# Altium footprint library mbed-HDK.PCBLIB: 59 footprints (part 2 of 4)
Each footprint in its own frame and in the unit in brackets; x right, y up, seen from the top. Pads: shape width x height; smd on the part's side, far side on the other; paste and mask are expansions set on the pad; w line width, h text height; cw(c..) or ccw(c..) is an arc to the next point about the centre after c.
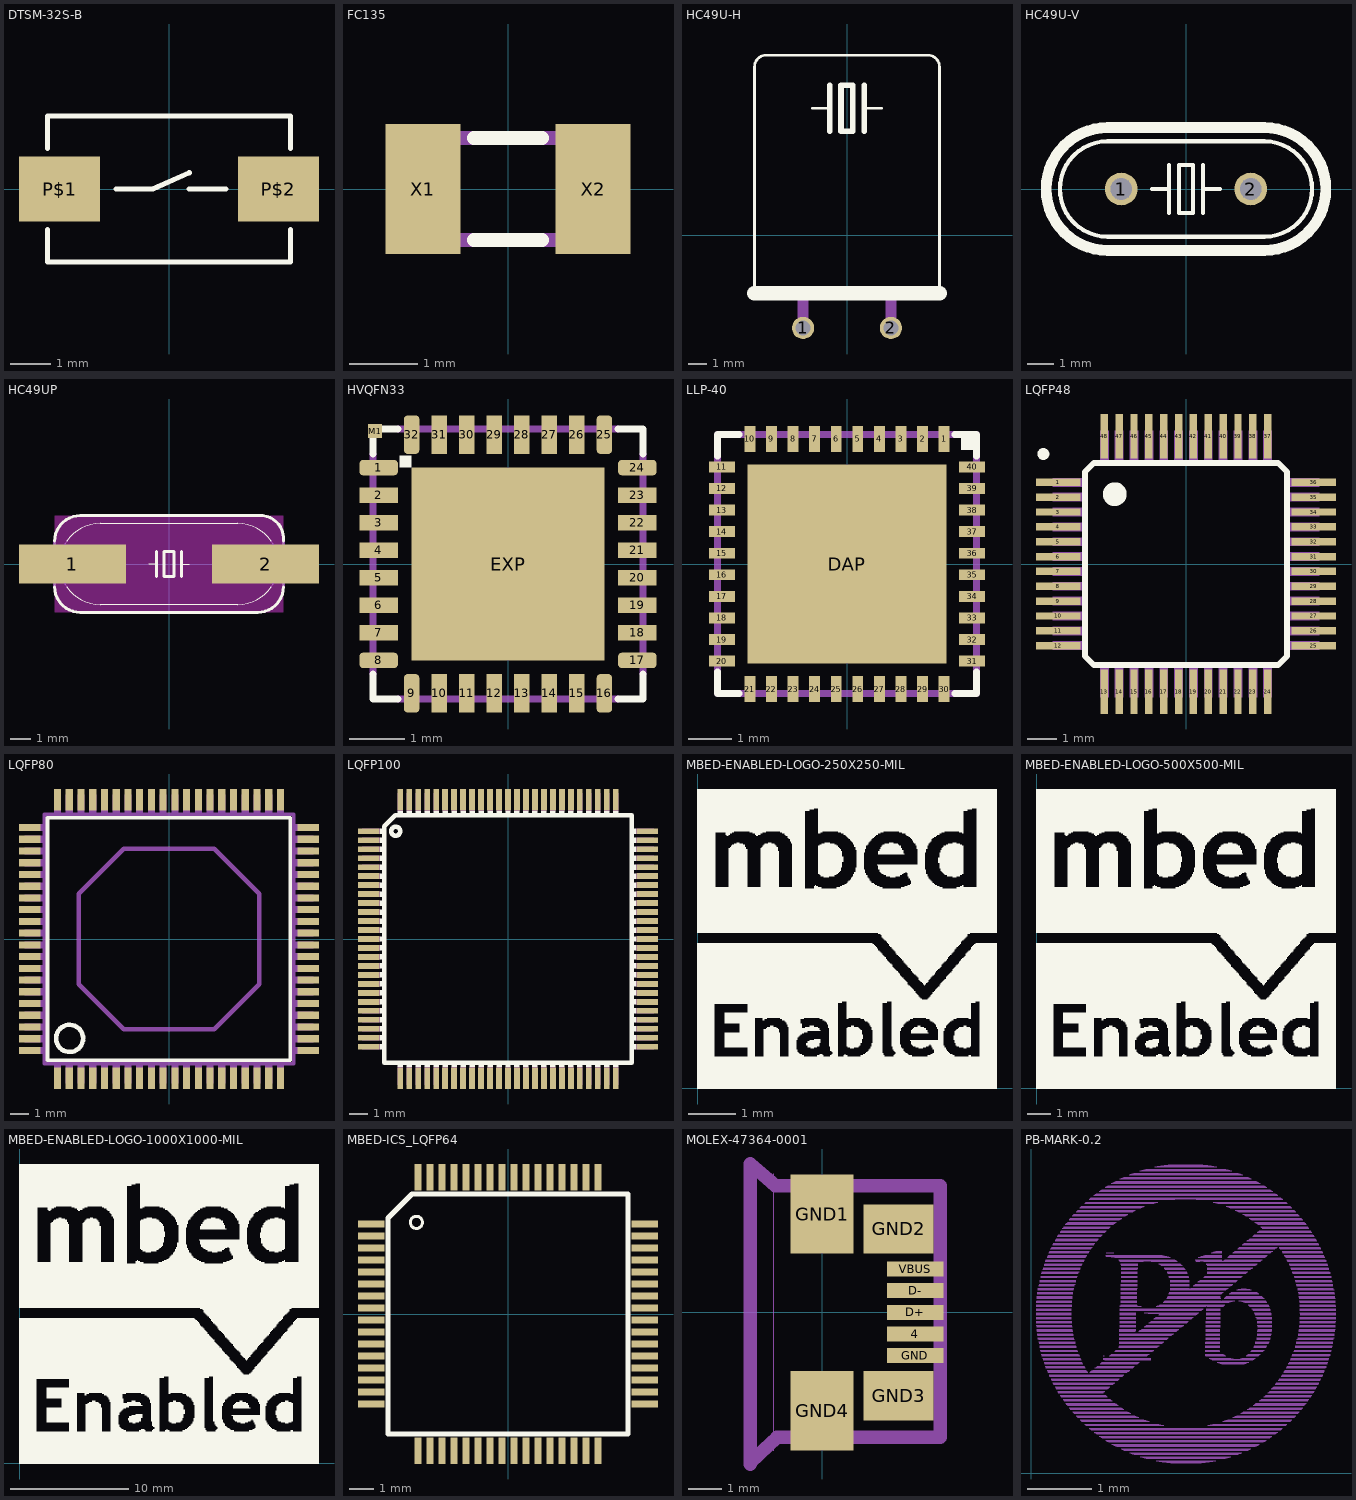
[diagram p1: the footprints below, top view; thin cyan lines are the x and y axes]

## DTSM-32S-B [mm]
pads (2):
  rect 2x1.6 smd: P$1(-2.7,0) P$2(2.7,0)
Top Overlay:
  lines w0.127: -3,-1 -3,-1.8 3,-1.8 3,-1 ; -3,1 -3,1.8 3,1.8 3,1 ; -1.3,0 -0.4,0 0.5,0.4 ; 0.5,0 1.4,0

## FC135 [mm]
pads (2):
  rect 1.1x1.9 smd: X1(-1.25,0) X2(1.25,0)
Top Overlay:
  lines w0.203: -0.5,-0.75 0.5,-0.75 ; -0.5,0.75 0.5,0.75
Mechanical 16:
  lines w0.203: -1.6,-0.75 -1.6,0.75 1.6,0.75 1.6,-0.75 -1.6,-0.75

## HC49U-H [mil]
pads (2):
  round 48 hole 32: 1(-95,-200) 2(95,-200)
Top Overlay:
  lines w6: -200,-125 -200,365 cw(c-175,365) -175,390 175,390 cw(c175,365) 200,365 200,-125 ; -75,275 -37,275 ; 37,275 75,275
  lines w12: -37,225 -37,275 -37,325 ; 37,225 37,275 37,325 ; -13,225 -13,325 12,325 12,225 -13,225
  lines w32: -200,-125 200,-125
Mechanical 16:
  lines w24: -95,-200 -95,-130 ; 95,-200 95,-130
Via Holes:
  rectangle: -250,-175 250,-75
  rectangle: -225,-75 225,425

## HC49U-V [mil]
pads (2):
  round 48 hole 32: 1(-95,0) 2(95,0)
Top Overlay:
  lines w6: -50,0 -25,0 ; -25,-35 -25,0 ; -25,35 -25,0 ; 25,-35 25,0 ; 25,35 25,0 ; 50,0 25,0 ; -115,-70 115,-70 ccw(c115,0) 115,70 -115,70 ccw(c-115,0) -115,-70 ; -10,-35 10,-35 10,35 -10,35 -10,-35
  lines w16: -115,-90 115,-90 ccw(c115,0) 115,90 -115,90 ccw(c-115,0) -115,-90
Via Holes:
  rectangle: -150,-110 150,110
  rectangle: -170,-100 -150,100
  rectangle: -190,-90 -170,90
  rectangle: -210,-70 -190,70
  rectangle: -220,-50 -210,40
  rectangle: 150,-100 170,100
  rectangle: 170,-90 190,90
  rectangle: 190,-70 210,70
  rectangle: 210,-40 220,40

## HC49UP [mil]
pads (2):
  rect 210x76 smd: 1(-190,0) 2(190,0)
Top Layer keep-out:
  rectangle: -225,-95 225,95
Top Overlay:
  lines w2: -201.15,-45 ccw(c-135.01,0) -135,-80 135,-80 ccw(c135,0) 201.14,-45 ; -201.15,45 cw(c-135,-0.01) -135,80 135,80 cw(c135.01,0) 201.15,45 ; -40,0 -25,0 ; 25,0 40,0
  lines w6: -225,-45 ccw(c-175,-45) -175,-95 175,-95 ccw(c175,-45) 225,-45 ; -225,45 cw(c-175,45) -175,95 185,95 cw(c180,50) 225,45 ; -25,-25 -25,0 -25,25 ; 25,-25 25,0 25,25 ; -10,-25 -10,25 10,25 10,-25 -10,-25
Mechanical 16:
  lines w2: -201.15,-45 cw(c-135,0) -201.15,45 ; 201.15,-45 ccw(c135,0) 201.15,45
  lines w6: -225,-45 -225,-25 ; -225,45 -225,25 ; 225,-45 225,-25 ; 225,45 225,25 ; -225,-25 -225,25 ; -225,-25 -255,-25 -255,25 -225,25 ; 225,-25 255,-25 255,25 225,25 ; 225,-25 225,25
Via Holes:
  rectangle: -265,-115 265,115

## HVQFN33 [mm]
pads (34):
  rrect50% 0.7x0.28 smd: 1(-2.35,1.75) 8(-2.35,-1.75) 17(2.35,-1.75) 24(2.35,1.75)
  rect 0.7x0.28 smd: 2(-2.35,1.25) 3(-2.35,0.75) 4(-2.35,0.25) 5(-2.35,-0.25) 6(-2.35,-0.75) 7(-2.35,-1.25) 18(2.35,-1.25) 19(2.35,-0.75) 20(2.35,-0.25) 21(2.35,0.25) 22(2.35,0.75) 23(2.35,1.25)
  rrect50% 0.28x0.7 smd: 9(-1.75,-2.35) 16(1.75,-2.35) 25(1.75,2.35) 32(-1.75,2.35)
  rect 0.28x0.7 smd: 10(-1.25,-2.35) 11(-0.75,-2.35) 12(-0.25,-2.35) 13(0.25,-2.35) 14(0.75,-2.35) 15(1.25,-2.35) 26(1.25,2.35) 27(0.75,2.35) 28(0.25,2.35) 29(-0.25,2.35) 30(-0.75,2.35) 31(-1.25,2.35)
  rect 3.5x3.5 smd: EXP(0,0)
  rect 0.25x0.25 smd: M1(-2.415,2.415)
Top Overlay:
  rectangle: -1.975,1.75 -1.75,1.975
  lines w0.127: -2.45,-2 -2.45,-2.45 -2,-2.45 ; -2.45,2 -2.45,2.45 -2,2.45 ; 2,-2.45 2.45,-2.45 2.45,-2 ; 2,2.45 2.45,2.45 2.45,2
Top Solder:
  rectangle: -1.75,-1.75 1.75,1.75
  rectangle: -2.725,1.575 -1.975,1.925
  rectangle: -2.725,1.075 -1.975,1.425
  rectangle: -2.725,0.575 -1.975,0.925
  rectangle: -2.725,0.075 -1.975,0.425
  rectangle: -2.725,-0.425 -1.975,-0.075
  rectangle: -2.725,-0.925 -1.975,-0.575
  rectangle: -2.725,-1.425 -1.975,-1.075
  rectangle: -2.725,-1.925 -1.975,-1.575
  region: -1.575,-2.725 -1.575,-1.975 -1.925,-1.975 -1.925,-2.725
  region: -1.075,-2.725 -1.075,-1.975 -1.425,-1.975 -1.425,-2.725
  region: -0.575,-2.725 -0.575,-1.975 -0.925,-1.975 -0.925,-2.725
  region: -0.075,-2.725 -0.075,-1.975 -0.425,-1.975 -0.425,-2.725
  region: 0.425,-2.725 0.425,-1.975 0.075,-1.975 0.075,-2.725
  region: 0.925,-2.725 0.925,-1.975 0.575,-1.975 0.575,-2.725
  region: 1.425,-2.725 1.425,-1.975 1.075,-1.975 1.075,-2.725
  region: 1.925,-2.725 1.925,-1.975 1.575,-1.975 1.575,-2.725
  region: 2.725,-1.575 1.975,-1.575 1.975,-1.925 2.725,-1.925
  region: 2.725,-1.075 1.975,-1.075 1.975,-1.425 2.725,-1.425
  region: 2.725,-0.575 1.975,-0.575 1.975,-0.925 2.725,-0.925
  region: 2.725,-0.075 1.975,-0.075 1.975,-0.425 2.725,-0.425
  region: 2.725,0.425 1.975,0.425 1.975,0.075 2.725,0.075
  region: 2.725,0.925 1.975,0.925 1.975,0.575 2.725,0.575
  region: 2.725,1.425 1.975,1.425 1.975,1.075 2.725,1.075
  region: 2.725,1.925 1.975,1.925 1.975,1.575 2.725,1.575
  region: 1.575,2.725 1.575,1.975 1.925,1.975 1.925,2.725
  region: 1.075,2.725 1.075,1.975 1.425,1.975 1.425,2.725
  region: 0.575,2.725 0.575,1.975 0.925,1.975 0.925,2.725
  region: 0.075,2.725 0.075,1.975 0.425,1.975 0.425,2.725
  region: -0.425,2.725 -0.425,1.975 -0.075,1.975 -0.075,2.725
  region: -0.925,2.725 -0.925,1.975 -0.575,1.975 -0.575,2.725
  region: -1.425,2.725 -1.425,1.975 -1.075,1.975 -1.075,2.725
  region: -1.925,2.725 -1.925,1.975 -1.575,1.975 -1.575,2.725
Mechanical 16:
  lines w0.127: -2.45,-2 -2.45,2 ; -2,-2.45 2,-2.45 ; -2,2.45 2,2.45 ; 2.45,-2 2.45,2

## LLP-40 [mm]
pads (41):
  rect 0.25x0.6 smd: 1(2.25,2.9) 2(1.75,2.9) 3(1.25,2.9) 4(0.75,2.9) 5(0.25,2.9) 6(-0.25,2.9) 7(-0.75,2.9) 8(-1.25,2.9) 9(-1.75,2.9) 10(-2.25,2.9) 21(-2.25,-2.9) 22(-1.75,-2.9) 23(-1.25,-2.9) 24(-0.75,-2.9) 25(-0.25,-2.9) 26(0.25,-2.9) 27(0.75,-2.9) 28(1.25,-2.9) 29(1.75,-2.9) 30(2.25,-2.9)
  rect 0.6x0.25 smd: 11(-2.9,2.25) 12(-2.9,1.75) 13(-2.9,1.25) 14(-2.9,0.75) 15(-2.9,0.25) 16(-2.9,-0.25) 17(-2.9,-0.75) 18(-2.9,-1.25) 19(-2.9,-1.75) 20(-2.9,-2.25) 31(2.9,-2.25) 32(2.9,-1.75) 33(2.9,-1.25) 34(2.9,-0.75) 35(2.9,-0.25) 36(2.9,0.25) 37(2.9,0.75) 38(2.9,1.25) 39(2.9,1.75) 40(2.9,2.25)
  rect 4.6x4.6 smd: DAP(0,0)
Top Overlay:
  rectangle: 2.642,2.642 2.997,2.997
  lines w0.152: -3,-2.5 -3,-3 -2.5,-3 ; -3,2.5 -3,3 -2.5,3 ; 2.5,-3 3,-3 3,-2.5 ; 2.5,3 3,3 3,2.5
Top Paste:
  rectangle: 2.125,2.7 2.375,3.4
  rectangle: 1.625,2.7 1.875,3.4
  rectangle: 1.125,2.7 1.375,3.4
  rectangle: 0.625,2.7 0.875,3.4
  rectangle: 0.125,2.7 0.375,3.4
  rectangle: -0.375,2.7 -0.125,3.4
  rectangle: -0.875,2.7 -0.625,3.4
  rectangle: -1.375,2.7 -1.125,3.4
  rectangle: -1.875,2.7 -1.625,3.4
  rectangle: -2.375,2.7 -2.125,3.4
  region: -2.7,2.125 -2.7,2.375 -3.4,2.375 -3.4,2.125
  region: -2.7,1.625 -2.7,1.875 -3.4,1.875 -3.4,1.625
  region: -2.7,1.125 -2.7,1.375 -3.4,1.375 -3.4,1.125
  region: -2.7,0.625 -2.7,0.875 -3.4,0.875 -3.4,0.625
  region: -2.7,0.125 -2.7,0.375 -3.4,0.375 -3.4,0.125
  region: -2.7,-0.375 -2.7,-0.125 -3.4,-0.125 -3.4,-0.375
  region: -2.7,-0.875 -2.7,-0.625 -3.4,-0.625 -3.4,-0.875
  region: -2.7,-1.375 -2.7,-1.125 -3.4,-1.125 -3.4,-1.375
  region: -2.7,-1.875 -2.7,-1.625 -3.4,-1.625 -3.4,-1.875
  region: -2.7,-2.375 -2.7,-2.125 -3.4,-2.125 -3.4,-2.375
  region: -2.125,-2.7 -2.375,-2.7 -2.375,-3.4 -2.125,-3.4
  region: -1.625,-2.7 -1.875,-2.7 -1.875,-3.4 -1.625,-3.4
  region: -1.125,-2.7 -1.375,-2.7 -1.375,-3.4 -1.125,-3.4
  region: -0.625,-2.7 -0.875,-2.7 -0.875,-3.4 -0.625,-3.4
  region: -0.125,-2.7 -0.375,-2.7 -0.375,-3.4 -0.125,-3.4
  region: 0.375,-2.7 0.125,-2.7 0.125,-3.4 0.375,-3.4
  region: 0.875,-2.7 0.625,-2.7 0.625,-3.4 0.875,-3.4
  region: 1.375,-2.7 1.125,-2.7 1.125,-3.4 1.375,-3.4
  region: 1.875,-2.7 1.625,-2.7 1.625,-3.4 1.875,-3.4
  region: 2.375,-2.7 2.125,-2.7 2.125,-3.4 2.375,-3.4
  region: 2.7,-2.125 2.7,-2.375 3.4,-2.375 3.4,-2.125
  region: 2.7,-1.625 2.7,-1.875 3.4,-1.875 3.4,-1.625
  region: 2.7,-1.125 2.7,-1.375 3.4,-1.375 3.4,-1.125
  region: 2.7,-0.625 2.7,-0.875 3.4,-0.875 3.4,-0.625
  region: 2.7,-0.125 2.7,-0.375 3.4,-0.375 3.4,-0.125
  region: 2.7,0.375 2.7,0.125 3.4,0.125 3.4,0.375
  region: 2.7,0.875 2.7,0.625 3.4,0.625 3.4,0.875
  region: 2.7,1.375 2.7,1.125 3.4,1.125 3.4,1.375
  region: 2.7,1.375 2.7,1.125 3.4,1.125 3.4,1.375
  region: 2.7,1.875 2.7,1.625 3.4,1.625 3.4,1.875
  region: 2.7,2.375 2.7,2.125 3.4,2.125 3.4,2.375
  rectangle: -1.1,-1.1 -0.1,-0.1
  rectangle: -1.1,0.1 -0.1,1.1
  rectangle: 0.1,0.1 1.1,1.1
  rectangle: 0.1,-1.1 1.1,-0.1
  rectangle: -2.2,0.1 -1.3,1.1
  rectangle: -2.2,-1.1 -1.3,-0.1
  rectangle: 1.3,-1.1 2.2,-0.1
  rectangle: 1.3,0.1 2.2,1.1
  rectangle: -1.1,-2.2 -0.1,-1.3
  rectangle: 0.1,-2.2 1.1,-1.3
  rectangle: -2.2,-2.2 -1.3,-1.3
  rectangle: 1.3,-2.2 2.2,-1.3
  rectangle: -2.2,1.3 -1.3,2.2
  rectangle: 1.3,1.3 2.2,2.2
  rectangle: 0.1,1.3 1.1,2.2
  rectangle: -1.1,1.3 -0.1,2.2
Top Solder:
  rectangle: 2.05,2.525 2.45,3.475
  rectangle: 1.55,2.525 1.95,3.475
  rectangle: 1.05,2.525 1.45,3.475
  rectangle: 0.55,2.525 0.95,3.475
  rectangle: 0.05,2.525 0.45,3.475
  rectangle: -0.45,2.525 -0.05,3.475
  rectangle: -0.95,2.525 -0.55,3.475
  rectangle: -1.45,2.525 -1.05,3.475
  rectangle: -1.95,2.525 -1.55,3.475
  rectangle: -2.45,2.525 -2.05,3.475
  region: -3.475,2.45 -3.475,2.05 -2.525,2.05 -2.525,2.45
  region: -3.475,1.95 -3.475,1.55 -2.525,1.55 -2.525,1.95
  region: -3.475,1.45 -3.475,1.05 -2.525,1.05 -2.525,1.45
  region: -3.475,0.95 -3.475,0.55 -2.525,0.55 -2.525,0.95
  region: -3.475,0.45 -3.475,0.05 -2.525,0.05 -2.525,0.45
  region: -3.475,-0.05 -3.475,-0.45 -2.525,-0.45 -2.525,-0.05
  region: -3.475,-0.55 -3.475,-0.95 -2.525,-0.95 -2.525,-0.55
  region: -3.475,-1.05 -3.475,-1.45 -2.525,-1.45 -2.525,-1.05
  region: -3.475,-1.55 -3.475,-1.95 -2.525,-1.95 -2.525,-1.55
  region: -3.475,-2.05 -3.475,-2.45 -2.525,-2.45 -2.525,-2.05
  rectangle: -2.45,-3.475 -2.05,-2.525
  rectangle: -1.95,-3.475 -1.55,-2.525
  rectangle: -1.45,-3.475 -1.05,-2.525
  rectangle: -0.95,-3.475 -0.55,-2.525
  rectangle: -0.45,-3.475 -0.05,-2.525
  rectangle: 0.05,-3.475 0.45,-2.525
  rectangle: 0.55,-3.475 0.95,-2.525
  rectangle: 1.05,-3.475 1.45,-2.525
  rectangle: 1.55,-3.475 1.95,-2.525
  rectangle: 2.05,-3.475 2.45,-2.525
  region: 3.475,-2.45 3.475,-2.05 2.525,-2.05 2.525,-2.45
  region: 3.475,-1.95 3.475,-1.55 2.525,-1.55 2.525,-1.95
  region: 3.475,-1.45 3.475,-1.05 2.525,-1.05 2.525,-1.45
  region: 3.475,-0.95 3.475,-0.55 2.525,-0.55 2.525,-0.95
  region: 3.475,-0.45 3.475,-0.05 2.525,-0.05 2.525,-0.45
  region: 3.475,0.05 3.475,0.45 2.525,0.45 2.525,0.05
  region: 3.475,0.55 3.475,0.95 2.525,0.95 2.525,0.55
  region: 3.475,1.05 3.475,1.45 2.525,1.45 2.525,1.05
  region: 3.475,1.55 3.475,1.95 2.525,1.95 2.525,1.55
  region: 3.475,2.05 3.475,2.45 2.525,2.45 2.525,2.05
  rectangle: -2.375,-2.375 2.375,2.375
Mechanical 16:
  circle w0: c-2.1,2.1 r0.141
  circle w0: c-0.7,2.1 r0.141
  circle w0: c0.7,2.1 r0.141
  circle w0: c2.1,2.1 r0.141
  circle w0: c-2.1,0.7 r0.141
  circle w0: c-0.7,0.7 r0.141
  circle w0: c0.7,0.7 r0.141
  circle w0: c2.1,0.7 r0.141
  circle w0: c2.1,-0.7 r0.141
  circle w0: c0.7,-0.7 r0.141
  circle w0: c-0.7,-0.7 r0.141
  circle w0: c-2.1,-0.7 r0.141
  circle w0: c-2.1,-2.1 r0.141
  circle w0: c-0.7,-2.1 r0.141
  circle w0: c0.7,-2.1 r0.141
  circle w0: c2.1,-2.1 r0.141
  lines w0.152: -3,-3 -3,3 3,3 3,-3 -3,-3
Via Holes:
  rectangle: -3.2,2.5 -2.5,3.2
  rectangle: 2.5,2.5 3.2,3.2
  rectangle: 2.5,-3.2 3.2,-2.5
  rectangle: -3.2,-3.2 -2.5,-2.5

## LQFP48 [mm]
pads (48):
  rect 1.5x0.25 smd: 1(-4.3,2.75) 2(-4.3,2.25) 3(-4.3,1.75) 4(-4.3,1.25) 5(-4.3,0.75) 6(-4.3,0.25) 7(-4.3,-0.25) 8(-4.3,-0.75) 9(-4.3,-1.25) 10(-4.3,-1.75) 11(-4.3,-2.25) 12(-4.3,-2.75) 25(4.3,-2.75) 26(4.3,-2.25) 27(4.3,-1.75) 28(4.3,-1.25) 29(4.3,-0.75) 30(4.3,-0.25) 31(4.3,0.25) 32(4.3,0.75) 33(4.3,1.25) 34(4.3,1.75) 35(4.3,2.25) 36(4.3,2.75)
  rect 0.25x1.5 smd: 13(-2.75,-4.3) 14(-2.25,-4.3) 15(-1.75,-4.3) 16(-1.25,-4.3) 17(-0.75,-4.3) 18(-0.25,-4.3) 19(0.25,-4.3) 20(0.75,-4.3) 21(1.25,-4.3) 22(1.75,-4.3) 23(2.25,-4.3) 24(2.75,-4.3) 37(2.75,4.3) 38(2.25,4.3) 39(1.75,4.3) 40(1.25,4.3) 41(0.75,4.3) 42(0.25,4.3) 43(-0.25,4.3) 44(-0.75,4.3) 45(-1.25,4.3) 46(-1.75,4.3) 47(-2.25,4.3) 48(-2.75,4.3)
Top Overlay:
  circle w0.2: c-4.8,3.704 r0.1
  circle w0.4: c-2.4,2.35 r0.2
  lines w0.203: -3.4,-3.1 -3.4,3.1 -3.1,3.4 3.1,3.4 3.4,3.1 3.4,-3.1 3.1,-3.4 -3.1,-3.4 -3.4,-3.1
Mechanical 16:
  rectangle: -4.5,2.6 -3.45,2.9
  rectangle: -4.5,2.1 -3.45,2.4
  rectangle: -4.5,1.6 -3.45,1.9
  rectangle: -4.5,1.1 -3.45,1.4
  rectangle: -4.5,0.6 -3.45,0.9
  rectangle: -4.5,0.1 -3.45,0.4
  rectangle: -4.5,-0.4 -3.45,-0.1
  rectangle: -4.5,-0.9 -3.45,-0.6
  rectangle: -4.5,-1.4 -3.45,-1.1
  rectangle: -4.5,-1.9 -3.45,-1.6
  rectangle: -4.5,-2.4 -3.45,-2.1
  rectangle: -4.5,-2.9 -3.45,-2.6
  rectangle: -2.9,-4.5 -2.6,-3.45
  rectangle: -2.4,-4.5 -2.1,-3.45
  rectangle: -1.9,-4.5 -1.6,-3.45
  rectangle: -1.4,-4.5 -1.1,-3.45
  rectangle: -0.9,-4.5 -0.6,-3.45
  rectangle: -0.4,-4.5 -0.1,-3.45
  rectangle: 0.1,-4.5 0.4,-3.45
  rectangle: 0.6,-4.5 0.9,-3.45
  rectangle: 1.1,-4.5 1.4,-3.45
  rectangle: 1.6,-4.5 1.9,-3.45
  rectangle: 2.1,-4.5 2.4,-3.45
  rectangle: 2.6,-4.5 2.9,-3.45
  rectangle: 3.45,-2.9 4.5,-2.6
  rectangle: 3.45,-2.4 4.5,-2.1
  rectangle: 3.45,-1.9 4.5,-1.6
  rectangle: 3.45,-1.4 4.5,-1.1
  rectangle: 3.45,-0.9 4.5,-0.6
  rectangle: 3.45,-0.4 4.5,-0.1
  rectangle: 3.45,0.1 4.5,0.4
  rectangle: 3.45,0.6 4.5,0.9
  rectangle: 3.45,1.1 4.5,1.4
  rectangle: 3.45,1.6 4.5,1.9
  rectangle: 3.45,2.1 4.5,2.4
  rectangle: 3.45,2.6 4.5,2.9
  rectangle: 2.6,3.45 2.9,4.5
  rectangle: 2.1,3.45 2.4,4.5
  rectangle: 1.6,3.45 1.9,4.5
  rectangle: 1.1,3.45 1.4,4.5
  rectangle: 0.6,3.45 0.9,4.5
  rectangle: 0.1,3.45 0.4,4.5
  rectangle: -0.4,3.45 -0.1,4.5
  rectangle: -0.9,3.45 -0.6,4.5
  rectangle: -1.4,3.45 -1.1,4.5
  rectangle: -1.9,3.45 -1.6,4.5
  rectangle: -2.4,3.45 -2.1,4.5
  rectangle: -2.9,3.45 -2.6,4.5

## LQFP80 [mm]
pads (80):
  rect 0.4x1.2 smd: 1(-6.175,-7.7) 2(-5.525,-7.7) 3(-4.875,-7.7) 4(-4.225,-7.7) 5(-3.575,-7.7) 6(-2.925,-7.7) 7(-2.275,-7.7) 8(-1.625,-7.7) 9(-0.975,-7.7) 10(-0.325,-7.7) 11(0.325,-7.7) 12(0.975,-7.7) 13(1.625,-7.7) 14(2.275,-7.7) 15(2.925,-7.7) 16(3.575,-7.7) 17(4.225,-7.7) 18(4.875,-7.7) 19(5.525,-7.7) 20(6.175,-7.7) 41(6.175,7.7) 42(5.525,7.7) 43(4.875,7.7) 44(4.225,7.7) 45(3.575,7.7) 46(2.925,7.7) 47(2.275,7.7) 48(1.625,7.7) 49(0.975,7.7) 50(0.325,7.7) 51(-0.325,7.7) 52(-0.975,7.7) 53(-1.625,7.7) 54(-2.275,7.7) 55(-2.925,7.7) 56(-3.575,7.7) 57(-4.225,7.7) 58(-4.875,7.7) 59(-5.525,7.7) 60(-6.175,7.7)
  rect 1.2x0.4 smd: 21(7.7,-6.175) 22(7.7,-5.525) 23(7.7,-4.875) 24(7.7,-4.225) 25(7.7,-3.575) 26(7.7,-2.925) 27(7.7,-2.275) 28(7.7,-1.625) 29(7.7,-0.975) 30(7.7,-0.325) 31(7.7,0.325) 32(7.7,0.975) 33(7.7,1.625) 34(7.7,2.275) 35(7.7,2.925) 36(7.7,3.575) 37(7.7,4.225) 38(7.7,4.875) 39(7.7,5.525) 40(7.7,6.175) 61(-7.7,6.175) 62(-7.7,5.525) 63(-7.7,4.875) 64(-7.7,4.225) 65(-7.7,3.575) 66(-7.7,2.925) 67(-7.7,2.275) 68(-7.7,1.625) 69(-7.7,0.975) 70(-7.7,0.325) 71(-7.7,-0.325) 72(-7.7,-0.975) 73(-7.7,-1.625) 74(-7.7,-2.275) 75(-7.7,-2.925) 76(-7.7,-3.575) 77(-7.7,-4.225) 78(-7.7,-4.875) 79(-7.7,-5.525) 80(-7.7,-6.175)
Top Overlay:
  circle w0.254: c-5.5,-5.5 r0.75
  lines w0.203: -6.72,-6.71 6.71,-6.71 6.71,6.71 -6.72,6.71 -6.72,-6.71
Mechanical 14:
  lines w0.254: -5,-2.5 -5,2.5 -2.5,5 2.5,5 5,2.5 5,-2.5 2.5,-5 -2.5,-5 -5,-2.5
  text "THERMAL" at -2.5,3.675 h1.26
  text "SLUG" at -2.5,2.175 h1.26
  text "LQFP_ED" at -2.5,0.675 h1.26
Mechanical 16:
  rectangle: -6.375,-8 -5.975,-6.95
  rectangle: -5.725,-8 -5.325,-6.95
  rectangle: -5.075,-8 -4.675,-6.95
  rectangle: -4.425,-8 -4.025,-6.95
  rectangle: -3.775,-8 -3.375,-6.95
  rectangle: -3.125,-8 -2.725,-6.95
  rectangle: -2.475,-8 -2.075,-6.95
  rectangle: -1.825,-8 -1.425,-6.95
  rectangle: -1.175,-8 -0.775,-6.95
  rectangle: -0.525,-8 -0.125,-6.95
  rectangle: 0.125,-8 0.525,-6.95
  rectangle: 0.775,-8 1.175,-6.95
  rectangle: 1.425,-8 1.825,-6.95
  rectangle: 2.075,-8 2.475,-6.95
  rectangle: 2.725,-8 3.125,-6.95
  rectangle: 3.375,-8 3.775,-6.95
  rectangle: 4.025,-8 4.425,-6.95
  rectangle: 4.675,-8 5.075,-6.95
  rectangle: 5.325,-8 5.725,-6.95
  rectangle: 5.975,-8 6.375,-6.95
  rectangle: 6.95,-6.375 8,-5.975
  rectangle: 6.95,-5.725 8,-5.325
  rectangle: 6.95,-5.075 8,-4.675
  rectangle: 6.95,-4.425 8,-4.025
  rectangle: 6.95,-3.775 8,-3.375
  rectangle: 6.95,-3.125 8,-2.725
  rectangle: 6.95,-2.475 8,-2.075
  rectangle: 6.95,-1.825 8,-1.425
  rectangle: 6.95,-1.175 8,-0.775
  rectangle: 6.95,-0.525 8,-0.125
  rectangle: 6.95,0.125 8,0.525
  rectangle: 6.95,0.775 8,1.175
  rectangle: 6.95,1.425 8,1.825
  rectangle: 6.95,2.075 8,2.475
  rectangle: 6.95,2.725 8,3.125
  rectangle: 6.95,3.375 8,3.775
  rectangle: 6.95,4.025 8,4.425
  rectangle: 6.95,4.675 8,5.075
  rectangle: 6.95,5.325 8,5.725
  rectangle: 6.95,5.975 8,6.375
  rectangle: 5.975,6.95 6.375,8
  rectangle: 5.325,6.95 5.725,8
  rectangle: 4.675,6.95 5.075,8
  rectangle: 4.025,6.95 4.425,8
  rectangle: 3.375,6.95 3.775,8
  rectangle: 2.725,6.95 3.125,8
  rectangle: 2.075,6.95 2.475,8
  rectangle: 1.425,6.95 1.825,8
  rectangle: 0.775,6.95 1.175,8
  rectangle: 0.125,6.95 0.525,8
  rectangle: -0.525,6.95 -0.125,8
  rectangle: -1.175,6.95 -0.775,8
  rectangle: -1.825,6.95 -1.425,8
  rectangle: -2.475,6.95 -2.075,8
  rectangle: -3.125,6.95 -2.725,8
  rectangle: -3.775,6.95 -3.375,8
  rectangle: -4.425,6.95 -4.025,8
  rectangle: -5.075,6.95 -4.675,8
  rectangle: -5.725,6.95 -5.325,8
  rectangle: -6.375,6.95 -5.975,8
  rectangle: -8,5.975 -6.95,6.375
  rectangle: -8,5.325 -6.95,5.725
  rectangle: -8,4.675 -6.95,5.075
  rectangle: -8,4.025 -6.95,4.425
  rectangle: -8,3.375 -6.95,3.775
  rectangle: -8,2.725 -6.95,3.125
  rectangle: -8,2.075 -6.95,2.475
  rectangle: -8,1.425 -6.95,1.825
  rectangle: -8,0.775 -6.95,1.175
  rectangle: -8,0.125 -6.95,0.525
  rectangle: -8,-0.525 -6.95,-0.125
  rectangle: -8,-1.175 -6.95,-0.775
  rectangle: -8,-1.825 -6.95,-1.425
  rectangle: -8,-2.475 -6.95,-2.075
  rectangle: -8,-3.125 -6.95,-2.725
  rectangle: -8,-3.775 -6.95,-3.375
  rectangle: -8,-4.425 -6.95,-4.025
  rectangle: -8,-5.075 -6.95,-4.675
  rectangle: -8,-5.725 -6.95,-5.325
  rectangle: -8,-6.375 -6.95,-5.975
  lines w0.203: -6.91,-6.91 6.91,-6.91 6.91,6.91 -6.91,6.91 -6.91,-6.91

## LQFP100 [mm]
pads (100):
  rect 1.2x0.32 smd: 1(-7.75,6) 2(-7.75,5.5) 3(-7.75,5) 4(-7.75,4.5) 5(-7.75,4) 6(-7.75,3.5) 7(-7.75,3) 8(-7.75,2.5) 9(-7.75,2) 10(-7.75,1.5) 11(-7.75,1) 12(-7.75,0.5) 13(-7.75,0) 14(-7.75,-0.5) 15(-7.75,-1) 16(-7.75,-1.5) 17(-7.75,-2) 18(-7.75,-2.5) 19(-7.75,-3) 20(-7.75,-3.5) 21(-7.75,-4) 22(-7.75,-4.5) 23(-7.75,-5) 24(-7.75,-5.5) 25(-7.75,-6) 51(7.75,-6) 52(7.75,-5.5) 53(7.75,-5) 54(7.75,-4.5) 55(7.75,-4) 56(7.75,-3.5) 57(7.75,-3) 58(7.75,-2.5) 59(7.75,-2) 60(7.75,-1.5) 61(7.75,-1) 62(7.75,-0.5) 63(7.75,0) 64(7.75,0.5) 65(7.75,1) 66(7.75,1.5) 67(7.75,2) 68(7.75,2.5) 69(7.75,3) 70(7.75,3.5) 71(7.75,4) 72(7.75,4.5) 73(7.75,5) 74(7.75,5.5) 75(7.75,6)
  rect 0.32x1.2 smd: 26(-6,-7.75) 27(-5.5,-7.75) 28(-5,-7.75) 29(-4.5,-7.75) 30(-4,-7.75) 31(-3.5,-7.75) 32(-3,-7.75) 33(-2.5,-7.75) 34(-2,-7.75) 35(-1.5,-7.75) 36(-1,-7.75) 37(-0.5,-7.75) 38(0,-7.75) 39(0.5,-7.75) 40(1,-7.75) 41(1.5,-7.75) 42(2,-7.75) 43(2.5,-7.75) 44(3,-7.75) 45(3.5,-7.75) 46(4,-7.75) 47(4.5,-7.75) 48(5,-7.75) 49(5.5,-7.75) 50(6,-7.75) 76(6,7.75) 77(5.5,7.75) 78(5,7.75) 79(4.5,7.75) 80(4,7.75) 81(3.5,7.75) 82(3,7.75) 83(2.5,7.75) 84(2,7.75) 85(1.5,7.75) 86(1,7.75) 87(0.5,7.75) 88(0,7.75) 89(-0.5,7.75) 90(-1,7.75) 91(-1.5,7.75) 92(-2,7.75) 93(-2.5,7.75) 94(-3,7.75) 95(-3.5,7.75) 96(-4,7.75) 97(-4.5,7.75) 98(-5,7.75) 99(-5.5,7.75) 100(-6,7.75)
Top Overlay:
  circle w0.254: c-6.25,6 r0.25
  rectangle: -6.152,6.861 -5.848,7.115
  rectangle: -5.653,6.861 -5.348,7.115
  rectangle: -5.152,6.861 -4.848,7.115
  rectangle: -4.653,6.861 -4.348,7.115
  rectangle: -4.152,6.861 -3.848,7.115
  rectangle: -3.653,6.861 -3.348,7.115
  rectangle: -3.152,6.861 -2.848,7.115
  rectangle: -2.653,6.861 -2.348,7.115
  rectangle: -2.152,6.861 -1.848,7.115
  rectangle: -1.653,6.861 -1.348,7.115
  rectangle: -1.152,6.861 -0.848,7.115
  rectangle: -0.653,6.861 -0.348,7.115
  rectangle: -0.152,6.861 0.152,7.115
  rectangle: 0.348,6.861 0.653,7.115
  rectangle: 0.848,6.861 1.152,7.115
  rectangle: 1.348,6.861 1.653,7.115
  rectangle: 1.848,6.861 2.152,7.115
  rectangle: 2.348,6.861 2.653,7.115
  rectangle: 2.848,6.861 3.152,7.115
  rectangle: 3.348,6.861 3.653,7.115
  rectangle: 3.848,6.861 4.152,7.115
  rectangle: 4.348,6.861 4.653,7.115
  rectangle: 4.848,6.861 5.152,7.115
  rectangle: 5.348,6.861 5.653,7.115
  rectangle: 5.848,6.861 6.152,7.115
  rectangle: 6.861,5.848 7.115,6.152
  rectangle: 6.861,5.348 7.115,5.653
  rectangle: 6.861,4.848 7.115,5.152
  rectangle: 6.861,4.348 7.115,4.653
  rectangle: 6.861,3.848 7.115,4.152
  rectangle: 6.861,3.348 7.115,3.653
  rectangle: 6.861,2.848 7.115,3.152
  rectangle: 6.861,2.348 7.115,2.653
  rectangle: 6.861,1.848 7.115,2.152
  rectangle: 6.861,1.348 7.115,1.653
  rectangle: 6.861,0.848 7.115,1.152
  rectangle: 6.861,0.348 7.115,0.653
  rectangle: 6.861,-0.152 7.115,0.152
  rectangle: 6.861,-0.653 7.115,-0.348
  rectangle: 6.861,-1.152 7.115,-0.848
  rectangle: 6.861,-1.653 7.115,-1.348
  rectangle: 6.861,-2.152 7.115,-1.848
  rectangle: 6.861,-2.653 7.115,-2.348
  rectangle: 6.861,-3.152 7.115,-2.848
  rectangle: 6.861,-3.653 7.115,-3.348
  rectangle: 6.861,-4.152 7.115,-3.848
  rectangle: 6.861,-4.653 7.115,-4.348
  rectangle: 6.861,-5.152 7.115,-4.848
  rectangle: 6.861,-5.653 7.115,-5.348
  rectangle: 6.861,-6.152 7.115,-5.848
  rectangle: 5.848,-7.115 6.152,-6.861
  rectangle: 5.348,-7.115 5.653,-6.861
  rectangle: 4.848,-7.115 5.152,-6.861
  rectangle: 4.348,-7.115 4.653,-6.861
  rectangle: 3.848,-7.115 4.152,-6.861
  rectangle: 3.348,-7.115 3.653,-6.861
  rectangle: 2.848,-7.115 3.152,-6.861
  rectangle: 2.348,-7.115 2.653,-6.861
  rectangle: 1.848,-7.115 2.152,-6.861
  rectangle: 1.348,-7.115 1.653,-6.861
  rectangle: 0.848,-7.115 1.152,-6.861
  rectangle: 0.348,-7.115 0.653,-6.861
  rectangle: -0.152,-7.115 0.152,-6.861
  rectangle: -0.653,-7.115 -0.348,-6.861
  rectangle: -1.152,-7.115 -0.848,-6.861
  rectangle: -1.653,-7.115 -1.348,-6.861
  rectangle: -2.152,-7.115 -1.848,-6.861
  rectangle: -2.653,-7.115 -2.348,-6.861
  rectangle: -3.152,-7.115 -2.848,-6.861
  rectangle: -3.653,-7.115 -3.348,-6.861
  rectangle: -4.152,-7.115 -3.848,-6.861
  rectangle: -4.653,-7.115 -4.348,-6.861
  rectangle: -5.152,-7.115 -4.848,-6.861
  rectangle: -5.653,-7.115 -5.348,-6.861
  rectangle: -6.152,-7.115 -5.848,-6.861
  rectangle: -7.115,-6.152 -6.861,-5.848
  rectangle: -7.115,-5.653 -6.861,-5.348
  rectangle: -7.115,-5.152 -6.861,-4.848
  rectangle: -7.115,-4.653 -6.861,-4.348
  rectangle: -7.115,-4.152 -6.861,-3.848
  rectangle: -7.115,-3.653 -6.861,-3.348
  rectangle: -7.115,-3.152 -6.861,-2.848
  rectangle: -7.115,-2.653 -6.861,-2.348
  rectangle: -7.115,-2.152 -6.861,-1.848
  rectangle: -7.115,-1.653 -6.861,-1.348
  rectangle: -7.115,-1.152 -6.861,-0.848
  rectangle: -7.115,-0.653 -6.861,-0.348
  rectangle: -7.115,-0.152 -6.861,0.152
  rectangle: -7.115,0.348 -6.861,0.653
  rectangle: -7.115,0.848 -6.861,1.152
  rectangle: -7.115,1.348 -6.861,1.653
  rectangle: -7.115,1.848 -6.861,2.152
  rectangle: -7.115,2.348 -6.861,2.653
  rectangle: -7.115,2.848 -6.861,3.152
  rectangle: -7.115,3.348 -6.861,3.653
  rectangle: -7.115,3.848 -6.861,4.152
  rectangle: -7.115,4.348 -6.861,4.653
  rectangle: -7.115,4.848 -6.861,5.152
  rectangle: -7.115,5.348 -6.861,5.653
  rectangle: -7.115,5.848 -6.861,6.152
  lines w0.254: -6.883,-6.883 -6.883,6.274 -6.274,6.883 6.883,6.883 6.883,-6.883 -6.883,-6.883
Mechanical 16:
  rectangle: -6.152,7.09 -5.848,8.131
  rectangle: -5.653,7.09 -5.348,8.131
  rectangle: -5.152,7.09 -4.848,8.131
  rectangle: -4.653,7.09 -4.348,8.131
  rectangle: -4.152,7.09 -3.848,8.131
  rectangle: -3.653,7.09 -3.348,8.131
  rectangle: -3.152,7.09 -2.848,8.131
  rectangle: -2.653,7.09 -2.348,8.131
  rectangle: -2.152,7.09 -1.848,8.131
  rectangle: -1.653,7.09 -1.348,8.131
  rectangle: -1.152,7.09 -0.848,8.131
  rectangle: -0.653,7.09 -0.348,8.131
  rectangle: -0.152,7.09 0.152,8.131
  rectangle: 0.348,7.09 0.653,8.131
  rectangle: 0.848,7.09 1.152,8.131
  rectangle: 1.348,7.09 1.653,8.131
  rectangle: 1.848,7.09 2.152,8.131
  rectangle: 2.348,7.09 2.653,8.131
  rectangle: 2.848,7.09 3.152,8.131
  rectangle: 3.348,7.09 3.653,8.131
  rectangle: 3.848,7.09 4.152,8.131
  rectangle: 4.348,7.09 4.653,8.131
  rectangle: 4.848,7.09 5.152,8.131
  rectangle: 5.348,7.09 5.653,8.131
  rectangle: 5.848,7.09 6.152,8.131
  rectangle: 7.09,5.848 8.131,6.152
  rectangle: 7.09,5.348 8.131,5.653
  rectangle: 7.09,4.848 8.131,5.152
  rectangle: 7.09,4.348 8.131,4.653
  rectangle: 7.09,3.848 8.131,4.152
  rectangle: 7.09,3.348 8.131,3.653
  rectangle: 7.09,2.848 8.131,3.152
  rectangle: 7.09,2.348 8.131,2.653
  rectangle: 7.09,1.848 8.131,2.152
  rectangle: 7.09,1.348 8.131,1.653
  rectangle: 7.09,0.848 8.131,1.152
  rectangle: 7.09,0.348 8.131,0.653
  rectangle: 7.09,-0.152 8.131,0.152
  rectangle: 7.09,-0.653 8.131,-0.348
  rectangle: 7.09,-1.152 8.131,-0.848
  rectangle: 7.09,-1.653 8.131,-1.348
  rectangle: 7.09,-2.152 8.131,-1.848
  rectangle: 7.09,-2.653 8.131,-2.348
  rectangle: 7.09,-3.152 8.131,-2.848
  rectangle: 7.09,-3.653 8.131,-3.348
  rectangle: 7.09,-4.152 8.131,-3.848
  rectangle: 7.09,-4.653 8.131,-4.348
  rectangle: 7.09,-5.152 8.131,-4.848
  rectangle: 7.09,-5.653 8.131,-5.348
  rectangle: 7.09,-6.152 8.131,-5.848
  rectangle: 5.848,-8.131 6.152,-7.09
  rectangle: 5.348,-8.131 5.653,-7.09
  rectangle: 4.848,-8.131 5.152,-7.09
  rectangle: 4.348,-8.131 4.653,-7.09
  rectangle: 3.848,-8.131 4.152,-7.09
  rectangle: 3.348,-8.131 3.653,-7.09
  rectangle: 2.848,-8.131 3.152,-7.09
  rectangle: 2.348,-8.131 2.653,-7.09
  rectangle: 1.848,-8.131 2.152,-7.09
  rectangle: 1.348,-8.131 1.653,-7.09
  rectangle: 0.848,-8.131 1.152,-7.09
  rectangle: 0.348,-8.131 0.653,-7.09
  rectangle: -0.152,-8.131 0.152,-7.09
  rectangle: -0.653,-8.131 -0.348,-7.09
  rectangle: -1.152,-8.131 -0.848,-7.09
  rectangle: -1.653,-8.131 -1.348,-7.09
  rectangle: -2.152,-8.131 -1.848,-7.09
  rectangle: -2.653,-8.131 -2.348,-7.09
  rectangle: -3.152,-8.131 -2.848,-7.09
  rectangle: -3.653,-8.131 -3.348,-7.09
  rectangle: -4.152,-8.131 -3.848,-7.09
  rectangle: -4.653,-8.131 -4.348,-7.09
  rectangle: -5.152,-8.131 -4.848,-7.09
  rectangle: -5.653,-8.131 -5.348,-7.09
  rectangle: -6.152,-8.131 -5.848,-7.09
  rectangle: -8.131,-6.152 -7.09,-5.848
  rectangle: -8.131,-5.653 -7.09,-5.348
  rectangle: -8.131,-5.152 -7.09,-4.848
  rectangle: -8.131,-4.653 -7.09,-4.348
  rectangle: -8.131,-4.152 -7.09,-3.848
  rectangle: -8.131,-3.653 -7.09,-3.348
  rectangle: -8.131,-3.152 -7.09,-2.848
  rectangle: -8.131,-2.653 -7.09,-2.348
  rectangle: -8.131,-2.152 -7.09,-1.848
  rectangle: -8.131,-1.653 -7.09,-1.348
  rectangle: -8.131,-1.152 -7.09,-0.848
  rectangle: -8.131,-0.653 -7.09,-0.348
  rectangle: -8.131,-0.152 -7.09,0.152
  rectangle: -8.131,0.348 -7.09,0.653
  rectangle: -8.131,0.848 -7.09,1.152
  rectangle: -8.131,1.348 -7.09,1.653
  rectangle: -8.131,1.848 -7.09,2.152
  rectangle: -8.131,2.348 -7.09,2.653
  rectangle: -8.131,2.848 -7.09,3.152
  rectangle: -8.131,3.348 -7.09,3.653
  rectangle: -8.131,3.848 -7.09,4.152
  rectangle: -8.131,4.348 -7.09,4.653
  rectangle: -8.131,4.848 -7.09,5.152
  rectangle: -8.131,5.348 -7.09,5.653
  rectangle: -8.131,5.848 -7.09,6.152

## MBED-ENABLED-LOGO-250X250-MIL [mm]
Top Overlay:
  drawing of 1197 lines, arcs and shapes, not listed

## MBED-ENABLED-LOGO-500X500-MIL [mm]
Top Overlay:
  drawing of 1197 lines, arcs and shapes, not listed

## MBED-ENABLED-LOGO-1000X1000-MIL [mm]
Top Overlay:
  drawing of 1197 lines, arcs and shapes, not listed

## MBED-ICS_LQFP64 [mm]
pads (64):
  rect 1.1x0.285 smd: 1(-5.7,3.75) 2(-5.7,3.25) 3(-5.7,2.75) 4(-5.7,2.25) 5(-5.7,1.75) 6(-5.7,1.25) 7(-5.7,0.75) 8(-5.7,0.25) 9(-5.7,-0.25) 10(-5.7,-0.75) 11(-5.7,-1.25) 12(-5.7,-1.75) 13(-5.7,-2.25) 14(-5.7,-2.75) 15(-5.7,-3.25) 16(-5.7,-3.75) 33(5.7,-3.75) 34(5.7,-3.25) 35(5.7,-2.75) 36(5.7,-2.25) 37(5.7,-1.75) 38(5.7,-1.25) 39(5.7,-0.75) 40(5.7,-0.25) 41(5.7,0.25) 42(5.7,0.75) 43(5.7,1.25) 44(5.7,1.75) 45(5.7,2.25) 46(5.7,2.75) 47(5.7,3.25) 48(5.7,3.75)
  rect 0.285x1.1 smd: 17(-3.75,-5.7) 18(-3.25,-5.7) 19(-2.75,-5.7) 20(-2.25,-5.7) 21(-1.75,-5.7) 22(-1.25,-5.7) 23(-0.75,-5.7) 24(-0.25,-5.7) 25(0.25,-5.7) 26(0.75,-5.7) 27(1.25,-5.7) 28(1.75,-5.7) 29(2.25,-5.7) 30(2.75,-5.7) 31(3.25,-5.7) 32(3.75,-5.7) 49(3.75,5.7) 50(3.25,5.7) 51(2.75,5.7) 52(2.25,5.7) 53(1.75,5.7) 54(1.25,5.7) 55(0.75,5.7) 56(0.25,5.7) 57(-0.25,5.7) 58(-0.75,5.7) 59(-1.25,5.7) 60(-1.75,5.7) 61(-2.25,5.7) 62(-2.75,5.7) 63(-3.25,5.7) 64(-3.75,5.7)
Top Overlay:
  circle w0.127: c-3.818,3.818 r0.254
  lines w0.203: -5,-5 5,-5 5,5 -4,5 -5,4 -5,-5

## MOLEX-47364-0001 [mm]
pads (9):
  rect 1.7x0.45 smd: 4(2.8,-0.65) D+(2.8,0) D-(2.8,0.65) GND(2.8,-1.3) VBUS(2.8,1.3)
  rect 1.9x2.375 smd: GND1(0,2.95) GND4(0,-2.95)
  rect 2.1x1.475 smd: GND2(2.3,2.5) GND3(2.3,-2.5)
Top Solder:
  rectangle: -1.05,0.2 1.05,1.35
  rectangle: -1.05,-1.35 1.05,-0.2
Mechanical 1:
  lines w0: -1.45,-4.15 -1.45,4.15
Mechanical 16:
  lines w0.406: -2.15,-4.55 -2.15,-4.5 ; -2.15,-4.5 -1.35,-3.75 3.55,-3.75 3.55,3.8 -1.4,3.8 -2.15,4.45 -2.15,-4.5
3D body "473460001.stp": height 2.72, standoff -0.22, extent -2.78,-3.99 2.65,3.99

## PB-MARK-0.2 [mm]
Mechanical 46:
  drawing of 3174 lines, arcs and shapes, not listed